# Altium schematic symbol library ESP32-S3-WROOM-1-N8R2.SchLib: 2 symbols
Pins are listed as number, name and electrical type; pins without a type are passive.

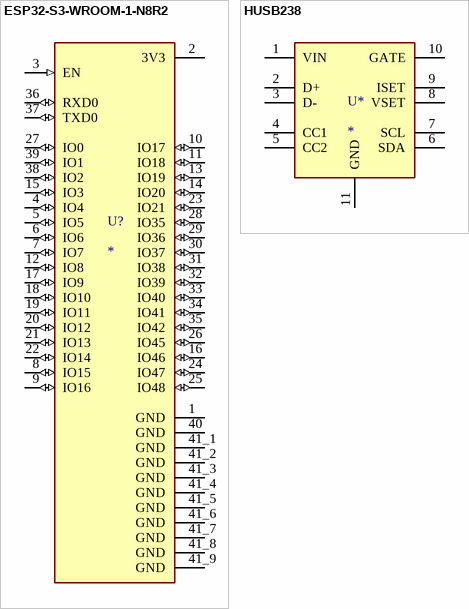
[diagram p0: symbols ESP32-S3-WROOM-1-N8R2 to HUSB238]

## ESP32-S3-WROOM-1-N8R2
designator U?
WiFi 802.11a/b/g/n, Bluetooth v5.0 Transceiver Module 2.4GHz Antenna Not Included -; MF: Espressif Systems; MP: ESP32-S3-WROOM-1-N8R2; Package: - Espressif Systems; Price: None; Check_prices: https://www.snapeda.com/parts/ESP32-S3-WROOM-1-N8R2/Espressif+Systems/view-part/?ref=eda; Value: *; SnapEDA_Link: https://www.snapeda.com/parts/ESP32-S3-WROOM-1-N8R2/Espressif+Systems/view-part/?ref=snap; Availability: In Stock; Purchase-URL: https://pricing.snapeda.com/search?q=ESP32-S3-WROOM-1-N8R2&ref=eda
footprint XCVR_ESP32-S3-WROOM-1-N8R2
pins: 1 GND (power), 2 3V3 (power), 3 EN (in), 4 IO4 (io), 5 IO5 (io), 6 IO6 (io), 7 IO7 (io), 8 IO15 (io), 9 IO16 (io), 10 IO17 (io), 11 IO18 (io), 12 IO8 (io), 13 IO19 (io), 14 IO20 (io), 15 IO3 (io), 16 IO46 (io), 17 IO9 (io), 18 IO10 (io), 19 IO11 (io), 20 IO12 (io), 21 IO13 (io), 22 IO14 (io), 23 IO21 (io), 24 IO47 (io), 25 IO48 (io), 26 IO45 (io), 27 IO0 (io), 28 IO35 (io), 29 IO36 (io), 30 IO37 (io), 31 IO38 (io), 32 IO39 (io), 33 IO40 (io), 34 IO41 (io), 35 IO42 (io), 36 RXD0 (io), 37 TXD0 (io), 38 IO2 (io), 39 IO1 (io), 40 GND (power), 41_1 GND (power), 41_2 GND (power), 41_3 GND (power), 41_4 GND (power), 41_5 GND (power), 41_6 GND (power), 41_7 GND (power), 41_8 GND (power), 41_9 GND (power)

## HUSB238
designator U*
footprint DFN10
pins: 1 VIN, 2 D+, 3 D-, 4 CC1, 5 CC2, 6 SDA, 7 SCL, 8 VSET, 9 ISET, 10 GATE, 11 GND